# Altium footprint library Passives.PcbLib: 19 footprints (part 2 of 2)
Each footprint in its own frame and in the unit in brackets; x right, y up, seen from the top. Pads: shape width x height; smd on the part's side, far side on the other; paste and mask are expansions set on the pad; w line width, h text height; cw(c..) or ccw(c..) is an arc to the next point about the centre after c.
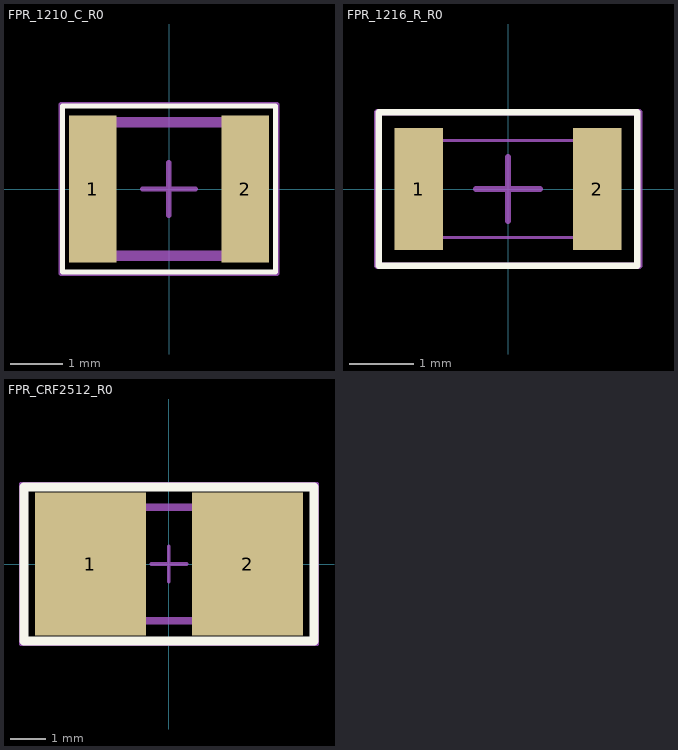
[diagram p1: the footprints below, top view; thin cyan lines are the x and y axes]

## FPR_1210_C_R0 [mm] "SMD Reflow"
height 2.8
pads (2):
  rect 0.9x2.8 smd: 1(-1.45,0) 2(1.45,0)
Top Overlay:
  lines w0.1: -2.025,-1.575 2.025,-1.575 2.025,1.575 -2.025,1.575 -2.025,-1.575
Top Designator:
  text ".Comment" at -1.143,-0.889 h0.64
  text ".Designator" at -1.143,0.254 h0.64
Top Component Outline:
  lines w0.203: -1.397,-1.27 -1.397,1.27 ; 1.397,-1.27 1.397,1.27 ; -1.524,-1.27 -1.524,1.27 1.524,1.27 1.524,-1.27 -1.524,-1.27
Top Courtyard:
  lines w0.1: -0.503,0 0.497,0 ; -0.003,-0.5 -0.003,0.5 ; -2.05,-1.6 2.05,-1.6 2.05,1.6 -2.05,1.6 -2.05,-1.6
3D body "c_smd_1210_10u.stp": height 2.8, standoff 0, extent -1.7,-1.35 1.7,1.35

## FPR_1216_R_R0 [mil] "SMD Reflow"
pads (2):
  rect 30x75 smd: 1(-55,0) 2(55,0)
Top Overlay:
  lines w3.94: -79.72,-47.24 79.72,-47.24 79.72,47.24 -79.72,47.24 -79.72,-47.24
Top Designator:
  text ".Comment" at -45,-35 h25
  text ".Designator" at -45,10 h25
Top Component Outline:
  lines w1.97: -60,-30 -60,30 60,30 60,-30 -60,-30
Top Courtyard:
  lines w3.94: -19.68,0 19.69,0 ; 0,-19.68 0,19.68 ; -80.58,-47.24 -80.58,47.24 80.84,47.24 80.84,-47.24 -80.58,-47.24
3D body "User Library-1206 SMD Resistor.step": height 40.05, standoff 0.6, extent -62.99,-31.99 62.99,31

## FPR_CRF2512_R0 [mm] "CRF2512 2W"
height 0.6
pads (2):
  rect 3.1x4 smd: 1(-2.2,0) 2(2.2,0)
Top Overlay:
  lines w0.254: -4.064,-2.159 -4.064,2.159 4.064,2.159 4.064,-2.159 -4.064,-2.159
Top Designator:
  text ".Comment" at -1.143,-3.048 h0.64
  text ".Designator" at -0.635,-0.381 h0.64
Top Component Outline:
  lines w0.203: -1.985,-1.59 -1.985,1.59 ; 1.985,-1.59 1.985,1.59 ; -3.175,-1.59 3.175,-1.59 3.175,1.59 -3.175,1.59 -3.175,-1.59
Top Courtyard:
  lines w0.1: -0.502,0 0.498,0 ; -0.002,-0.5 -0.002,0.5 ; -4.15,-2.25 -4.15,2.25 4.15,2.25 4.15,-2.25 -4.15,-2.25
3D body "crf2512_R002.stp": height 0.61, standoff 0.01, extent -3.2,-1.6 3.2,1.6